# EAGLE library part MPU6KMOD (library sensors)
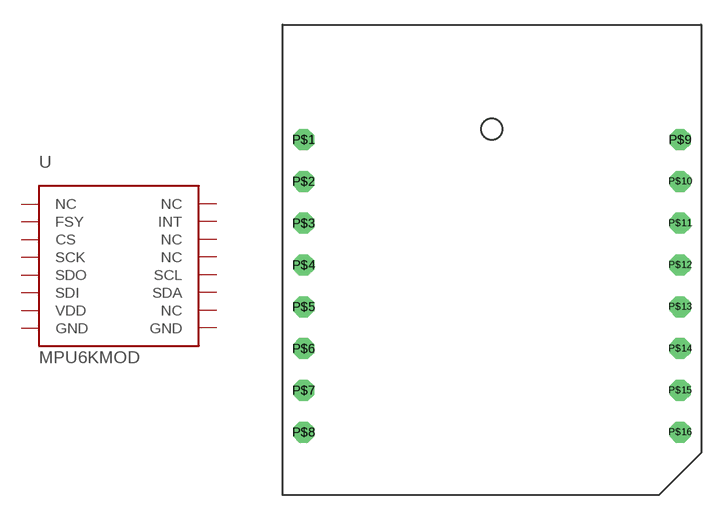
[diagram p3: symbol with the pads of MPU6KMOD; footprint MPU6KMOD]

Designator prefix -

## MPU6KMOD  [MPU6KMOD]
P$1  NC  nc
P$2  FSY  in
P$3  CS  in
P$4  SCK
P$5  SDO  out
P$6  SDI  in
P$7  VDD  pwr
P$8  GND  pwr
P$9  NC  nc
P$10  INT  out
P$11  NC  nc
P$12  NC  nc
P$13  SCL
P$14  SDA
P$15  NC  nc
P$16  GND  pwr

## Footprint MPU6KMOD (pad centres in mm)
drill 0.6 pad 1.27 octagon: P$1 -11.43,7.62; P$2 -11.43,5.08; P$3 -11.43,2.54; P$4 -11.43,0; P$5 -11.43,-2.54; P$6 -11.43,-5.08; P$7 -11.43,-7.62; P$8 -11.43,-10.16; P$9 11.43,7.62; P$10 11.43,5.08; P$11 11.43,2.54; P$12 11.43,0; P$13 11.43,-2.54; P$14 11.43,-5.08; P$15 11.43,-7.62; P$16 11.43,-10.16